# EAGLE library part TINYDUINOWATCHDOG (library SSI)
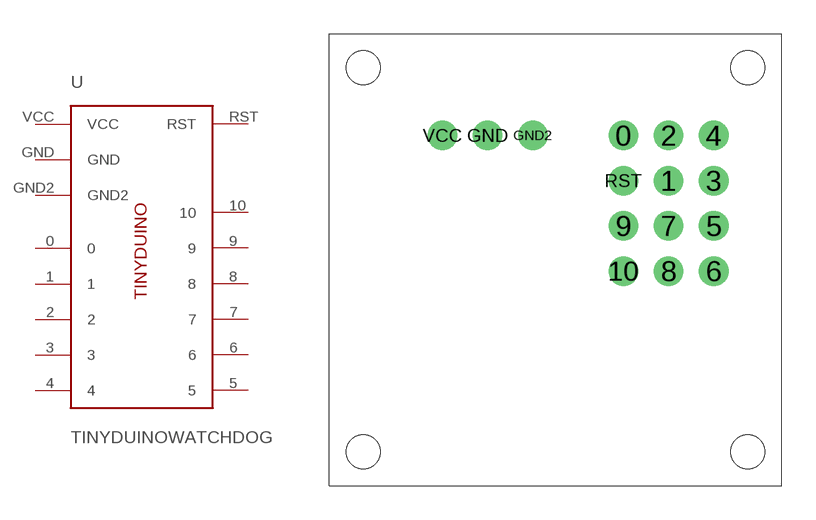
[diagram p4: symbol with the pads of TINYDUINOWATCHDOG; footprint TINYDUINOWATCHDOG]

Designator prefix -

## TINYDUINOWATCHDOG  [TINYDUINOWATCHDOG]
0  0
1  1
2  2
3  3
4  4
5  5
6  6
7  7
8  8
9  9
10  10
GND  GND
GND2  GND2
RST  RST
VCC  VCC

## Footprint TINYDUINOWATCHDOG (pad centres in mm)
drill 0.8: 0 13,15.5; 1 15,13.5; 2 15,15.5; 3 17,13.5; 4 17,15.5; 5 17,11.5; 6 17,9.5; 7 15,11.5; 8 15,9.5; 9 13,11.5; 10 13,9.5; GND 7,15.5; GND2 9,15.5; RST 13,13.5; VCC 5,15.5
hole 1.5 at 18.501,18.499
hole 1.5 at 1.501,18.499
hole 1.5 at 1.501,1.499
hole 1.5 at 18.501,1.499